# EAGLE library part MCP3208 (library IotaWatt4.8)
MCP3208 12bit SPI ADC
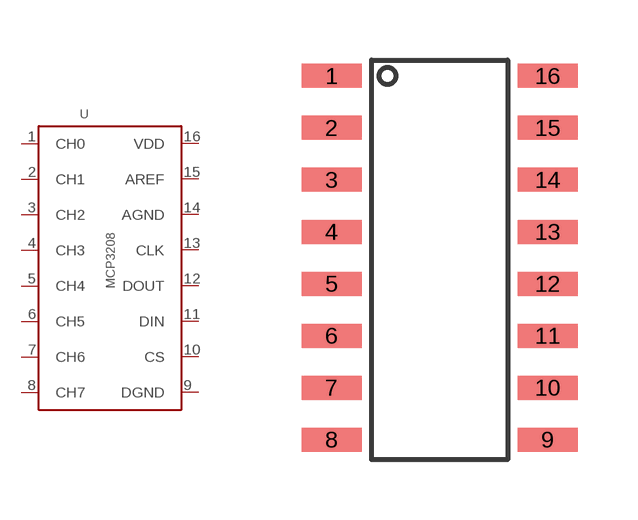
[diagram p1: symbol with the pads of SOIC_16; footprint SOIC_16]

Designator prefix -

## MCP3208  [SOIC_16]
1  CH0  in
2  CH1  in
3  CH2  in
4  CH3  in
5  CH4
6  CH5
7  CH6  in
8  CH7
9  DGND
10  CS  in
11  DIN  in
12  DOUT
13  CLK  in
14  AGND  in
15  AREF  in
16  VDD

## Footprint SOIC_16 (pad centres in mm)
Generic SOIC 16 pad
smd 1.5 x 0.6: 1 -2.7,5.2; 2 -2.7,3.9; 3 -2.7,2.6; 4 -2.7,1.3; 5 -2.7,0; 6 -2.7,-1.3; 7 -2.7,-2.6; 8 -2.7,-3.9; 9 2.7,-3.9; 10 2.7,-2.6; 11 2.7,-1.3; 12 2.7,0; 13 2.7,1.3; 14 2.7,2.6; 15 2.7,3.9; 16 2.7,5.2